# Altium integrated library MX34005NF1.IntLib: 1 symbol
Pins are listed as number, name and electrical type; pins without a type are passive.

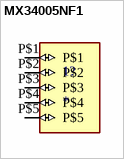
[diagram p0: symbol MX34005NF1]

## MX34005NF1
designator 1?
Connector Header Through Hole, Right Angle 5 position 0.087 (2.20mm); MF: JAE Electronics; MP: MX34005NF1; SnapEDA_Link: https://www.snapeda.com/parts/MX34005NF1/JAE+Electronics/view-part/?ref=snap; Package: None; Value: *; Check_prices: https://www.snapeda.com/parts/MX34005NF1/JAE+Electronics/view-part/?ref=eda
footprint MX34005NF1
pins: P$1 (io), P$2 (io), P$3 (io), P$4 (io), P$5 (io)